# Altium schematic symbol library STD7LN80K5.SchLib: 1 symbol
Pins are listed as number, name and electrical type; pins without a type are passive.

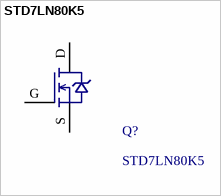
[diagram p0: symbol STD7LN80K5]

## STD7LN80K5
designator Q?
N-Channel 800V 5A (Tc) 85W (Tc) Surface Mount DPAK; Manufacturer 1: STMicroelectronics; ComponentLink1Description: Datasheet; ComponentLink1URL: https://www.st.com/content/ccc/resource/technical/document/datasheet/06/44/1d/7b/97/c4/4a/2a/DM00256349.pdf/files/DM00256349.pdf/jcr:content/translations/en.DM00256349.pdf; Digikey PN: 497-16491-1-ND; Manufacturer 1 PN: STD7LN80K5; Voltage: 800V; Current: 5A; Power: 85W
footprint STD7LN80K5 (N-Channel 800V 5A (Tc) 85W (Tc) Surface Mount DPAK)
pins: D (power), G (power), S (power)